# EAGLE library part DACX311 (library LinnesLab-DigitalIC)
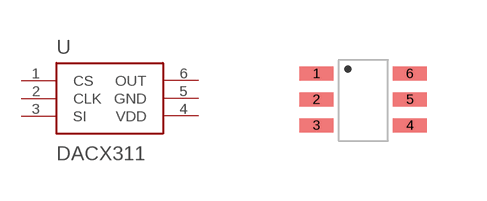
[diagram p26: symbol with the pads of SC-70-6; footprint SC-70-6]

Designator prefix U

## DACX311 (ALTERNATEPARTNUMBER: TS5A3159DBVT; APPLICATION_BUILDNUMBER: *; COMPTYPE: IC; MANUFACTURER: Texas Instruments; MOUNTTYPE: SMT; PACKAGEREFERENCE: DBV0006A; PARTNUMBER: TS5A3159DBVR; PIN_COUNT: 6; REFDES: RefDes; ROHS: Y; TYPE: TYPE; VALUE: Value)  [SC-70-6]
1  CS
2  CLK
3  SI
4  VDD
5  GND
6  OUT

## Footprint SC-70-6 (pad centres in mm)
smd 0.85 x 0.35: 1 -1.168,0.61; 2 -1.168,-0.038; 3 -1.168,-0.686; 4 1.168,-0.686; 5 1.168,-0.038; 6 1.168,0.61